# Altium footprint library Resistors.PcbLib: 2 footprints
Each footprint in its own frame and in the unit in brackets; x right, y up, seen from the top. Pads: shape width x height; smd on the part's side, far side on the other; paste and mask are expansions set on the pad; w line width, h text height; cw(c..) or ccw(c..) is an arc to the next point about the centre after c.
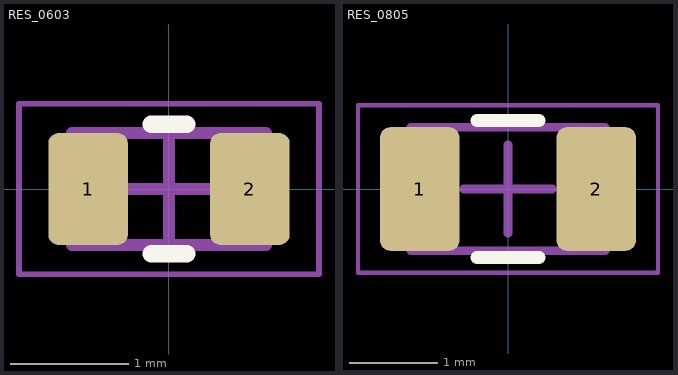
[diagram p0: the footprints below, top view; thin cyan lines are the x and y axes]

## RES_0603 [mm] "Chip Resistor, 2-Leads, Body 1,58x0,85mm, IPC Medium Density"
height 0.5
pads (2):
  rrect25% 0.675x0.95 smd: 1(-0.687,0) 2(0.688,0)
Top Overlay:
  lines w0.15: -0.15,-0.55 0.15,-0.55 ; -0.15,0.55 0.15,0.55
Top Assembly:
  lines w0.1: -0.825,-0.475 0.825,-0.475 0.825,0.475 -0.825,0.475 -0.825,-0.475
Top Designator:
  text ".Designator" at -2.286,1.077 h1
Top Courtyard:
  lines w0.05: -1.275,-0.725 1.275,-0.725 1.275,0.725 -1.275,0.725 -1.275,-0.725
Top Component Center:
  lines w0.1: -0.475,0 0.475,0 ; 0,-0.475 0,0.475
3D body "RES_0603.step": height 0.45, standoff 0, extent -0.8,-0.4 0.8,0.4

## RES_0805 [mm] "Chip Resistor, 2-Leads, Body 2,05x1,25mm, IPC Medium Density"
height 0.6
pads (2):
  rrect25% 0.9x1.4 smd: 1(-1,0) 2(1,0)
Top Overlay:
  lines w0.15: -0.35,-0.775 0.35,-0.775 ; -0.35,0.775 0.35,0.775
Top Assembly:
  lines w0.1: -1.1,-0.7 1.1,-0.7 1.1,0.7 -1.1,0.7 -1.1,-0.7
Top Designator:
  text ".Designator" at -2.159,1.204 h1
Top Courtyard:
  lines w0.05: -1.7,-0.95 1.7,-0.95 1.7,0.95 -1.7,0.95 -1.7,-0.95
Top Component Center:
  lines w0.1: -0.5,0 0.5,0 ; 0,-0.5 0,0.5
3D body "RES_0805.step": height 0.45, standoff 0, extent -1,-0.6 1,0.6